# EAGLE library part ADUM3440 (library open-ephys)
quad channel high speed digital isolator
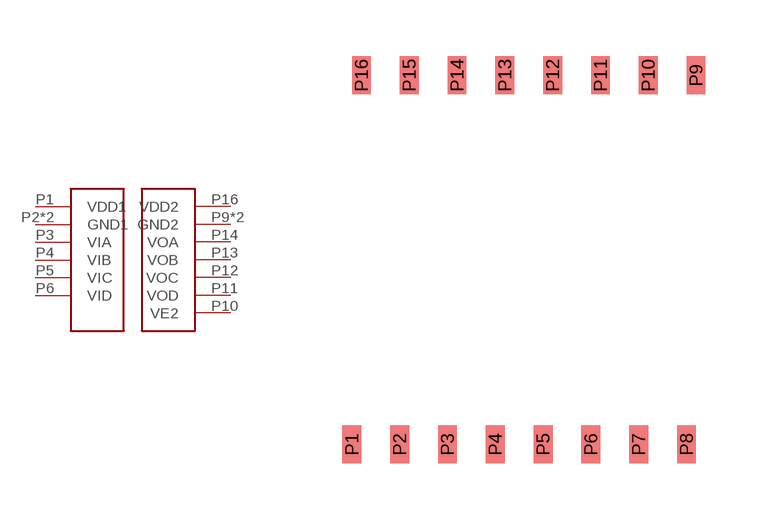
[diagram p21: symbol with the pads of SOIC_WIDE_16; footprint SOIC_WIDE_16]

Designator prefix -

## ADUM3440  [SOIC_WIDE_16]
P1  VDD1
P2  GND1
P3  VIA
P4  VIB
P5  VIC
P6  VID
P8  GND1
P9  GND2
P10  VE2
P11  VOD
P12  VOC
P13  VOB
P14  VOA
P15  GND2
P16  VDD2

## Footprint SOIC_WIDE_16 (pad centres in mm)
smd 0.5 x 1: P1 -4.064,-4.064; P2 -2.794,-4.064; P3 -1.524,-4.064; P4 -0.254,-4.064; P5 1.016,-4.064; P6 2.286,-4.064; P7 3.556,-4.064; P8 4.826,-4.064; P9 5.08,5.75; P10 3.81,5.75; P11 2.54,5.75; P12 1.27,5.75; P13 0,5.75; P14 -1.27,5.75; P15 -2.54,5.75; P16 -3.81,5.75